# Altium footprint library Kanaloa_V2.0.0_Power.PcbLib: 36 footprints (part 1 of 3)
Each footprint in its own frame and in the unit in brackets; x right, y up, seen from the top. Pads: shape width x height; smd on the part's side, far side on the other; paste and mask are expansions set on the pad; w line width, h text height; cw(c..) or ccw(c..) is an arc to the next point about the centre after c.
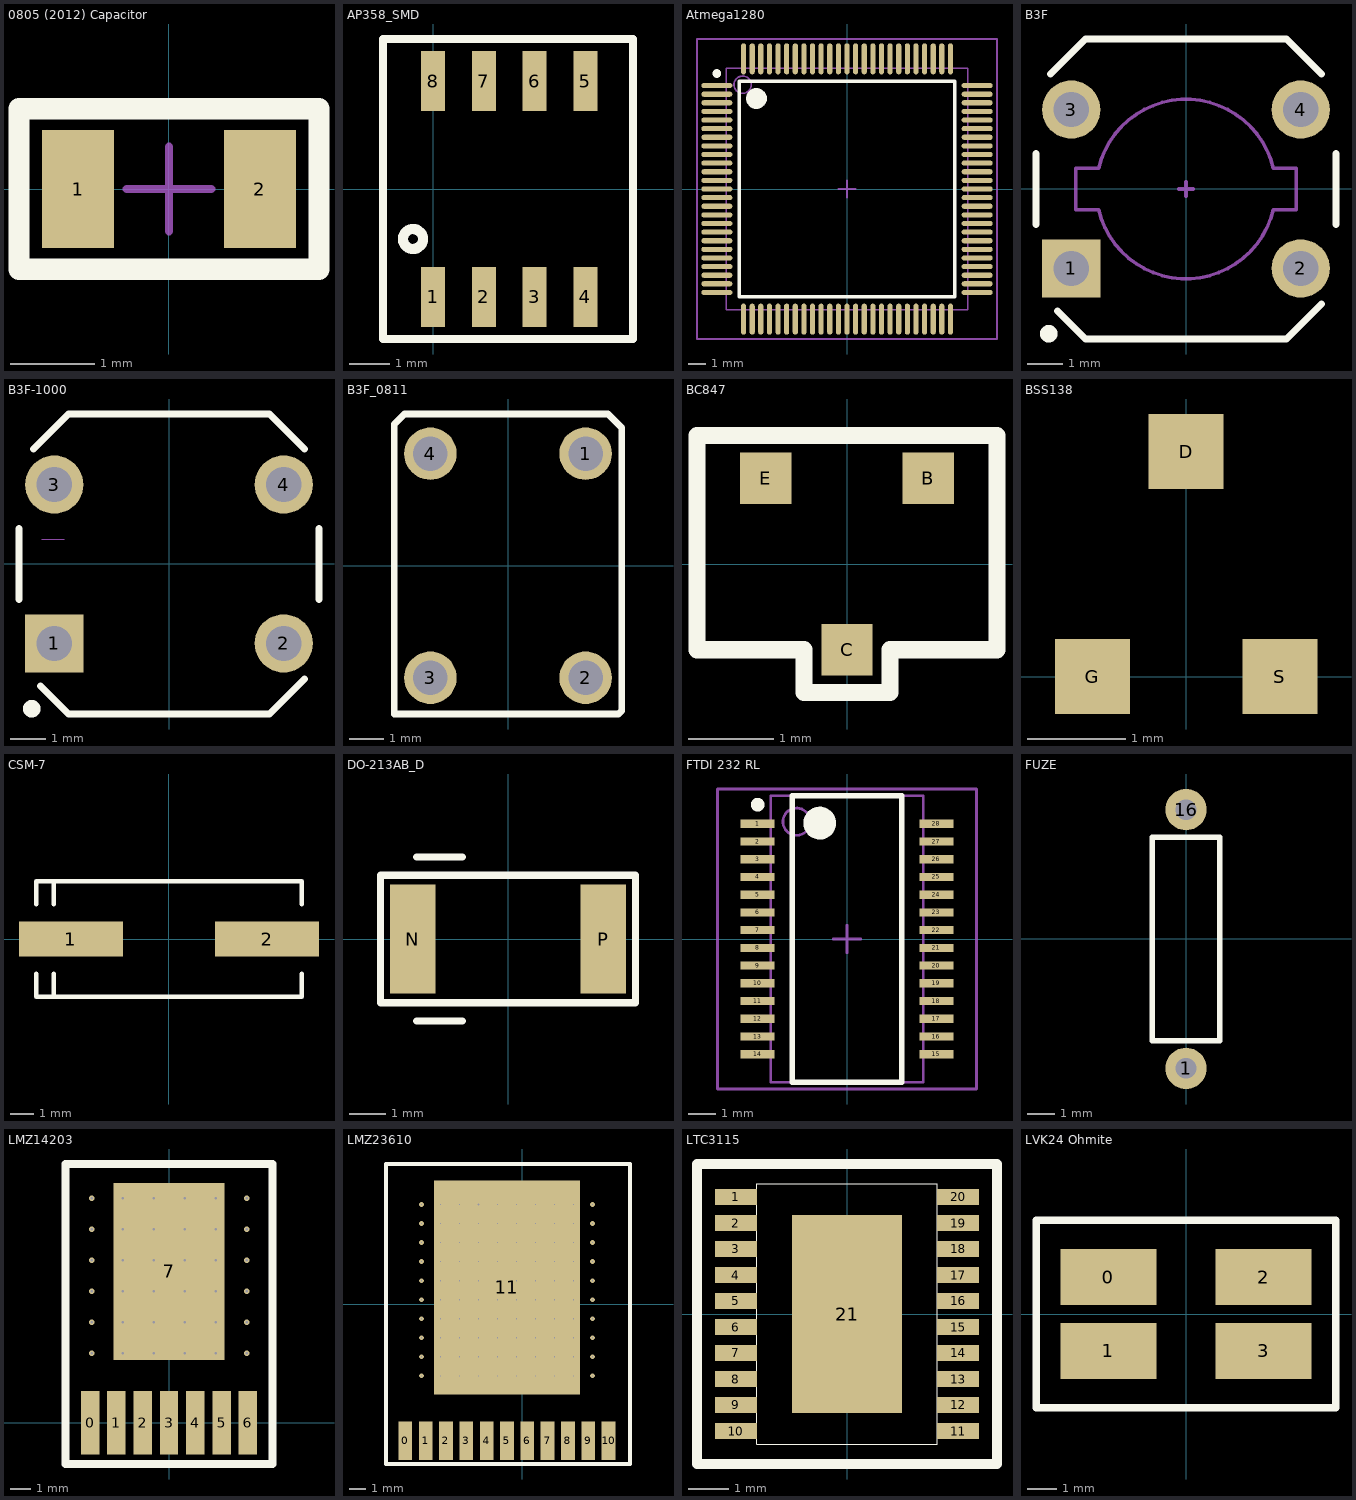
[diagram p0: the footprints below, top view; thin cyan lines are the x and y axes]

## 0805 (2012) Capacitor [mm] "0805 (2012) Capacitor"
height 0.6
pads (2):
  rect 0.85x1.4 smd: 1(-1.075,0) 2(1.075,0)
Top Overlay:
  lines w0.254: -1.775,-0.95 1.775,-0.95 1.775,0.95 -1.775,0.95 -1.775,-0.95
Mechanical 15:
  lines w0.1: -0.5,0 0.5,0 ; 0,-0.5 0,0.5 ; -1.775,-0.95 1.775,-0.95 1.775,0.95 -1.775,0.95 -1.775,-0.95
3D body: height 0.85, standoff 0, extent -1.188,-0.65 -0.813,0.65
3D body: height 0.85, standoff 0, extent -1.1,-0.635 1.1,0.635
3D body: height 0.85, standoff 0, extent 0.813,-0.65 1.188,0.65

## AP358_SMD [mm] "Dual Circuit OpAmp (Diodes)"
pads (8):
  rect 0.6x1.5 smd: 1(0,-2.7) 2(1.27,-2.7) 3(2.54,-2.7) 4(3.81,-2.7) 5(3.81,2.7) 6(2.54,2.7) 7(1.27,2.7) 8(0,2.7)
Top Overlay:
  circle w0.254: c-0.5,-1.25 r0.25
  lines w0.2: -1.25,-3.75 -1.25,3.75 5,3.75 5,-3.75 -1.25,-3.75
3D body: height 1.6, standoff 0, extent -0.605,-3.021 4.415,3.021

## Atmega1280 [mm] "TSQFP, 100-Leads, Body 14x14mm (max), Pitch 0.50mm, IPC Medium Density"
height 1.2
pads (100):
  oval 1.8x0.3 smd: 1(-7.55,6) 2(-7.55,5.5) 3(-7.55,5) 4(-7.55,4.5) 5(-7.55,4) 6(-7.55,3.5) 7(-7.55,3) 8(-7.55,2.5) 9(-7.55,2) 10(-7.55,1.5) 11(-7.55,1) 12(-7.55,0.5) 13(-7.55,0) 14(-7.55,-0.5) 15(-7.55,-1) 16(-7.55,-1.5) 17(-7.55,-2) 18(-7.55,-2.5) 19(-7.55,-3) 20(-7.55,-3.5) 21(-7.55,-4) 22(-7.55,-4.5) 23(-7.55,-5) 24(-7.55,-5.5) 25(-7.55,-6) 51(7.55,-6) 52(7.55,-5.5) 53(7.55,-5) 54(7.55,-4.5) 55(7.55,-4) 56(7.55,-3.5) 57(7.55,-3) 58(7.55,-2.5) 59(7.55,-2) 60(7.55,-1.5) 61(7.55,-1) 62(7.55,-0.5) 63(7.55,0) 64(7.55,0.5) 65(7.55,1) 66(7.55,1.5) 67(7.55,2) 68(7.55,2.5) 69(7.55,3) 70(7.55,3.5) 71(7.55,4) 72(7.55,4.5) 73(7.55,5) 74(7.55,5.5) 75(7.55,6)
  oval 0.3x1.8 smd: 26(-6,-7.55) 27(-5.5,-7.55) 28(-5,-7.55) 29(-4.5,-7.55) 30(-4,-7.55) 31(-3.5,-7.55) 32(-3,-7.55) 33(-2.5,-7.55) 34(-2,-7.55) 35(-1.5,-7.55) 36(-1,-7.55) 37(-0.5,-7.55) 38(0,-7.55) 39(0.5,-7.55) 40(1,-7.55) 41(1.5,-7.55) 42(2,-7.55) 43(2.5,-7.55) 44(3,-7.55) 45(3.5,-7.55) 46(4,-7.55) 47(4.5,-7.55) 48(5,-7.55) 49(5.5,-7.55) 50(6,-7.55) 76(6,7.55) 77(5.5,7.55) 78(5,7.55) 79(4.5,7.55) 80(4,7.55) 81(3.5,7.55) 82(3,7.55) 83(2.5,7.55) 84(2,7.55) 85(1.5,7.55) 86(1,7.55) 87(0.5,7.55) 88(0,7.55) 89(-0.5,7.55) 90(-1,7.55) 91(-1.5,7.55) 92(-2,7.55) 93(-2.5,7.55) 94(-3,7.55) 95(-3.5,7.55) 96(-4,7.55) 97(-4.5,7.55) 98(-5,7.55) 99(-5.5,7.55) 100(-6,7.55)
Top Overlay:
  circle w0.6: c-5.25,5.25 r0.3
  circle w0.25: c-7.55,6.7 r0.125
  lines w0.2: -6.25,-6.25 6.25,-6.25 6.25,6.25 -6.25,6.25 -6.25,-6.25
Mechanical 13:
  circle w0.1: c-6.05,6.05 r0.5
  lines w0.1: -7,-7 7,-7 7,7 -7,7 -7,-7
Mechanical 15:
  lines w0.1: -0.5,0 0.5,0 ; 0,-0.5 0,0.5 ; -8.7,-8.7 8.7,-8.7 8.7,8.7 -8.7,8.7 -8.7,-8.7
3D body: height 1.03, standoff -0.03, extent -8,-7.999 8,8.001

## B3F [mm]
pads (4):
  rect 1.65x1.65 hole 1: 1(-3.25,-2.25)
  round 1.65 hole 1: 2(3.25,-2.25) 3(-3.25,2.25) 4(3.25,2.25)
Top Overlay:
  circle w0.25: c-3.891,-4.1 r0.125
  lines w0.2: -4.25,-1 -4.25,1 ; -3.837,3.263 -2.85,4.25 2.85,4.25 3.837,3.263 ; -3.638,-3.458 -2.85,-4.25 2.85,-4.25 3.837,-3.263 ; 4.25,-1 4.25,1
Mechanical 1:
  lines w0.1: -3.124,-0.584 -3.124,0.584 ; -3.119,-0.584 -2.489,-0.584 ; -3.119,0.584 -2.489,0.584 ; -2.476,-0.583 ccw(c-0.001,0) 2.473,-0.583 ; -2.474,0.583 cw(c0,0) 2.474,0.583 ; -0.2,0 0.2,0 ; 0,-0.2 0,0.2 ; 2.489,-0.584 3.119,-0.584 ; 2.489,0.584 3.119,0.584 ; 3.124,-0.584 3.124,0.584

## B3F-1000 [mm] "OMRON Electronics Pushbutton Tactile SPST-NO 0.05A 24V"
pads (4):
  rect 1.65x1.65 hole 1: 1(-3.25,-2.25)
  round 1.65 hole 1: 2(3.25,-2.25) 3(-3.25,2.25) 4(3.25,2.25)
Top Overlay:
  circle w0.25: c-3.891,-4.1 r0.125
  lines w0.2: -4.25,-1 -4.25,1 ; -3.837,3.263 -2.85,4.25 2.85,4.25 3.837,3.263 ; -3.638,-3.458 -2.85,-4.25 2.85,-4.25 3.837,-3.263 ; 4.25,-1 4.25,1
Mechanical 1:
  lines w0: -3.6,0.7 -2.97,0.7
3D body: height 4.3, standoff -3.5, extent -3.814,-3 3.886,3

## B3F_0811 [mm]
pads (4):
  round 1.524 hole 1: 1(2.25,3.25) 2(2.25,-3.25) 3(-2.25,-3.25) 4(-2.25,3.25)
Top Overlay:
  lines w0.2: -3.3,-4.3 -3.3,4 -3.3,4.1 -3,4.4 2.9,4.4 3.3,4 3.3,-4.2 3.2,-4.3 -3.3,-4.3
3D body: height 3.4, standoff 0, extent -3,-3 3,3

## BC847 [mm] "NPN Transistor"
pads (3):
  rect 0.6x0.6 smd: B(0.95,1) C(0,-1) E(-0.95,1)
Top Overlay:
  lines w0.2: -1.75,-1 -1.75,1.5 1.75,1.5 1.75,-1 0.5,-1 0.5,-1.5 -0.5,-1.5 -0.5,-1 -1.75,-1
3D body: height 1, standoff 0, extent -1.75,-1 1.75,1.5

## BSS138 [mil] "SOT23 N Channel Logic Level Enchance Mode Field Effect Transisitor"
pads (3):
  rect 30x30 smd: D(0,90) G(-37.5,0) S(37.5,0)
3D body: height 43.11, standoff 0, extent -59.06,-6.21 59.05,92.22

## CSM-7 [mm] "Quartz Crystal, SM; 2 Leads; Body 11.4 x 4.8 x 5 mm (LxWxH)"
height 5
pads (2):
  rect 4.5x1.5 smd: 1(-4.25,0) 2(4.25,0)
Top Overlay:
  lines w0.2: -5.75,-1.5 -5.75,-2.5 5.75,-2.5 5.75,-1.5 ; -5.75,1.5 -5.75,2.5 5.75,2.5 5.75,1.5 ; -5,-2.5 -5,-1.5 ; -5,1.5 -5,2.5

## DO-213AB_D [mil] "Zener Diode 1.5V"
pads (2):
  rect 49x118 smd: N(-103,0) P(103,0)
Top Overlay:
  lines w7.87: -98.43,-88.58 -49.21,-88.58 ; -98.43,88.58 -49.21,88.58 ; -137.8,-68.9 137.8,-68.9 137.8,68.9 -137.8,68.9 -137.8,-68.9
3D body: height 52.56, standoff -52.56, extent -102.36,-53 102.36,52.12

## FTDI 232 RL [mm] "SOP, 28-Leads, Body 10.5x5.6mm (max), Pitch 0.65mm, IPC Medium Density"
height 2
pads (28):
  rect 1.25x0.3 smd: 1(-3.275,4.225) 2(-3.275,3.575) 3(-3.275,2.925) 4(-3.275,2.275) 5(-3.275,1.625) 6(-3.275,0.975) 7(-3.275,0.325) 8(-3.275,-0.325) 9(-3.275,-0.975) 10(-3.275,-1.625) 11(-3.275,-2.275) 12(-3.275,-2.925) 13(-3.275,-3.575) 14(-3.275,-4.225) 15(3.275,-4.225) 16(3.275,-3.575) 17(3.275,-2.925) 18(3.275,-2.275) 19(3.275,-1.625) 20(3.275,-0.975) 21(3.275,-0.325) 22(3.275,0.325) 23(3.275,0.975) 24(3.275,1.625) 25(3.275,2.275) 26(3.275,2.925) 27(3.275,3.575) 28(3.275,4.225)
Top Overlay:
  circle w0.25: c-3.275,4.925 r0.125
  circle w0.6: c-1,4.25 r0.3
  lines w0.2: -2,-5.25 -2,5.25 2,5.25 2,-5.25 -2,-5.25
Mechanical 13:
  circle w0.1: c-1.85,4.3 r0.5
  lines w0.1: -2.8,-5.25 -2.8,5.25 2.8,5.25 2.8,-5.25 -2.8,-5.25
Mechanical 15:
  lines w0.1: -0.5,0 0.5,0 ; 0,-0.5 0,0.5 ; -4.75,-5.5 -4.75,5.5 4.75,5.5 4.75,-5.5 -4.75,-5.5
3D body: height 1.98, standoff -0.02, extent -3.931,-5.095 3.881,5.105

## FUZE [mil]
pads (2):
  round 60 hole 30: 1(0,-187.52) 16(0,187.5)
Top Overlay:
  lines w7.87: -49.21,-147.64 49.21,-147.64 49.21,147.64 -49.21,147.64 -49.21,-147.64

## LMZ14203 [mm] "Voltage Regulator TI"
pads (8):
  rect 0.89x3.06 smd: 0(-3.81,0) 1(-2.54,0) 2(-1.27,0) 3(0,0) 4(1.27,0) 5(2.54,0) 6(3.81,0)
  rect 5.35x8.54 smd: 7(0,7.305)
via -3.734,3.353 diameter 0.254 hole 0.127
via -2.235,3.353 diameter 0.254 hole 0.127
via -0.737,3.353 diameter 0.254 hole 0.127
via 0.762,3.353 diameter 0.254 hole 0.127
via 2.261,3.353 diameter 0.254 hole 0.127
via 3.759,3.353 diameter 0.254 hole 0.127
via 3.759,3.353 diameter 0.254 hole 0.127
via 2.261,3.353 diameter 0.254 hole 0.127
via 0.762,3.353 diameter 0.254 hole 0.127
via -0.737,3.353 diameter 0.254 hole 0.127
via -2.235,3.353 diameter 0.254 hole 0.127
via 3.759,4.851 diameter 0.254 hole 0.127
via 2.261,4.851 diameter 0.254 hole 0.127
via 0.762,4.851 diameter 0.254 hole 0.127
via -0.737,4.851 diameter 0.254 hole 0.127
via -2.235,4.851 diameter 0.254 hole 0.127
via -3.734,4.851 diameter 0.254 hole 0.127
via 3.759,6.35 diameter 0.254 hole 0.127
via 2.261,6.35 diameter 0.254 hole 0.127
via 0.762,6.35 diameter 0.254 hole 0.127
via -0.737,6.35 diameter 0.254 hole 0.127
via -2.235,6.35 diameter 0.254 hole 0.127
via -3.734,6.35 diameter 0.254 hole 0.127
via 3.759,7.849 diameter 0.254 hole 0.127
via 2.261,7.849 diameter 0.254 hole 0.127
via 0.762,7.849 diameter 0.254 hole 0.127
via -0.737,7.849 diameter 0.254 hole 0.127
via -2.235,7.849 diameter 0.254 hole 0.127
via -3.734,7.849 diameter 0.254 hole 0.127
via 3.759,9.347 diameter 0.254 hole 0.127
via 2.261,9.347 diameter 0.254 hole 0.127
via 0.762,9.347 diameter 0.254 hole 0.127
via -0.737,9.347 diameter 0.254 hole 0.127
via -2.235,9.347 diameter 0.254 hole 0.127
via -3.734,9.347 diameter 0.254 hole 0.127
via 3.759,10.846 diameter 0.254 hole 0.127
via 2.261,10.846 diameter 0.254 hole 0.127
via 0.762,10.846 diameter 0.254 hole 0.127
via -0.737,10.846 diameter 0.254 hole 0.127
via -2.235,10.846 diameter 0.254 hole 0.127
via -3.734,10.846 diameter 0.254 hole 0.127
Top Overlay:
  lines w0.4: 5,-1.75 5,-2 ; 5,-2 -5,-2 -5,12.5 5,12.5 5,-2
3D body: height 4.88, standoff 0.11, extent -5.105,-1.272 5.055,12.498

## LMZ23610 [mm] "Voltage Regulator (TI)"
pads (12):
  rect 0.86x2.41 smd: 0(-7.29,-8.557) 1(-6.02,-8.557) 2(-4.75,-8.557) 3(-3.48,-8.557) 4(-2.21,-8.557) 5(-0.94,-8.557) 6(0.33,-8.557) 7(1.6,-8.557) 8(2.87,-8.557) 9(4.14,-8.557) 10(5.41,-8.557)
  rect 9.126x13.37 smd: 11(-0.94,1.043)
via -6.293,6.211 diameter 0.305 hole 0.003
via -6.293,6.211 diameter 0.305 hole 0.003
via -5.104,6.211 diameter 0.305 hole 0.003
via -3.915,6.211 diameter 0.305 hole 0.003
via -2.727,6.211 diameter 0.305 hole 0.127
via -1.538,6.211 diameter 0.305 hole 0.003
via -0.349,6.211 diameter 0.305 hole 0.003
via 0.839,6.211 diameter 0.305 hole 0.003
via 2.028,6.211 diameter 0.305 hole 0.003
via 3.217,6.211 diameter 0.305 hole 0.003
via 4.406,6.211 diameter 0.305 hole 0.003
via -6.293,5.022 diameter 0.305 hole 0.003
via -6.293,5.022 diameter 0.305 hole 0.003
via -5.104,5.022 diameter 0.305 hole 0.003
via -3.915,5.022 diameter 0.305 hole 0.003
via -2.727,5.022 diameter 0.305 hole 0.003
via -1.538,5.022 diameter 0.305 hole 0.003
via -0.349,5.022 diameter 0.305 hole 0.003
via 0.839,5.022 diameter 0.305 hole 0.003
via 2.028,5.022 diameter 0.305 hole 0.003
via 3.217,5.022 diameter 0.305 hole 0.003
via 4.406,5.022 diameter 0.305 hole 0.003
via -6.293,3.833 diameter 0.305 hole 0.003
via -6.293,3.833 diameter 0.305 hole 0.003
via -5.104,3.833 diameter 0.305 hole 0.003
via -3.915,3.833 diameter 0.305 hole 0.003
via -2.727,3.833 diameter 0.305 hole 0.003
via -1.538,3.833 diameter 0.305 hole 0.003
via -0.349,3.833 diameter 0.305 hole 0.003
via 0.839,3.833 diameter 0.305 hole 0.003
via 2.028,3.833 diameter 0.305 hole 0.003
via 3.217,3.833 diameter 0.305 hole 0.003
via 4.406,3.833 diameter 0.305 hole 0.003
via -6.293,2.645 diameter 0.305 hole 0.003
via -6.293,2.645 diameter 0.305 hole 0.003
via -5.104,2.645 diameter 0.305 hole 0.003
via -3.915,2.645 diameter 0.305 hole 0.003
via -2.727,2.645 diameter 0.305 hole 0.003
via -1.538,2.645 diameter 0.305 hole 0.003
via -0.349,2.645 diameter 0.305 hole 0.003
via 0.839,2.645 diameter 0.305 hole 0.003
via 2.028,2.645 diameter 0.305 hole 0.003
via 3.217,2.645 diameter 0.305 hole 0.003
via 4.406,2.645 diameter 0.305 hole 0.003
via -6.293,1.456 diameter 0.305 hole 0.003
via -6.293,1.456 diameter 0.305 hole 0.003
via -5.104,1.456 diameter 0.305 hole 0.003
via -3.915,1.456 diameter 0.305 hole 0.003
via -2.727,1.456 diameter 0.305 hole 0.003
via -1.538,1.456 diameter 0.305 hole 0.003
via -0.349,1.456 diameter 0.305 hole 0.003
via 0.839,1.456 diameter 0.305 hole 0.003
via 2.028,1.456 diameter 0.305 hole 0.003
via 3.217,1.456 diameter 0.305 hole 0.003
via 4.406,1.456 diameter 0.305 hole 0.003
via -6.293,0.267 diameter 0.305 hole 0.003
via -6.293,0.267 diameter 0.305 hole 0.003
via -5.104,0.267 diameter 0.305 hole 0.003
via -3.915,0.267 diameter 0.305 hole 0.003
via -2.727,0.267 diameter 0.305 hole 0.003
via -1.538,0.267 diameter 0.305 hole 0.003
via -0.349,0.267 diameter 0.305 hole 0.003
via 0.839,0.267 diameter 0.305 hole 0.003
via 2.028,0.267 diameter 0.305 hole 0.003
via 3.217,0.267 diameter 0.305 hole 0.003
via 4.406,0.267 diameter 0.305 hole 0.003
via -6.293,-0.922 diameter 0.305 hole 0.003
via -5.104,-0.922 diameter 0.305 hole 0.003
via -3.915,-0.922 diameter 0.305 hole 0.003
via -2.727,-0.922 diameter 0.305 hole 0.003
via -1.538,-0.922 diameter 0.305 hole 0.003
via -0.349,-0.922 diameter 0.305 hole 0.003
via 0.839,-0.922 diameter 0.305 hole 0.003
via 2.028,-0.922 diameter 0.305 hole 0.003
via 3.217,-0.922 diameter 0.305 hole 0.003
via 4.406,-0.922 diameter 0.305 hole 0.003
via -6.293,-2.11 diameter 0.305 hole 0.003
via -5.104,-2.11 diameter 0.305 hole 0.003
via -3.915,-2.11 diameter 0.305 hole 0.003
via -2.727,-2.11 diameter 0.305 hole 0.003
via -1.538,-2.11 diameter 0.305 hole 0.003
via -0.349,-2.11 diameter 0.305 hole 0.003
via 0.839,-2.11 diameter 0.305 hole 0.003
via 2.028,-2.11 diameter 0.305 hole 0.003
via 3.217,-2.11 diameter 0.305 hole 0.003
via 4.406,-2.11 diameter 0.305 hole 0.003
via -6.293,-3.299 diameter 0.305 hole 0.003
via -5.104,-3.299 diameter 0.305 hole 0.003
via -3.915,-3.299 diameter 0.305 hole 0.003
via -2.727,-3.299 diameter 0.305 hole 0.003
via -1.538,-3.299 diameter 0.305 hole 0.003
via -0.349,-3.299 diameter 0.305 hole 0.003
via 0.839,-3.299 diameter 0.305 hole 0.003
via 2.028,-3.299 diameter 0.305 hole 0.003
via 3.217,-3.299 diameter 0.305 hole 0.003
via 4.406,-3.299 diameter 0.305 hole 0.003
via -5.104,-4.488 diameter 0.305 hole 0.003
via -3.915,-4.488 diameter 0.305 hole 0.003
via -2.727,-4.488 diameter 0.305 hole 0.003
via -1.538,-4.488 diameter 0.305 hole 0.003
via -0.349,-4.488 diameter 0.305 hole 0.003
via 0.839,-4.488 diameter 0.305 hole 0.003
via 2.028,-4.488 diameter 0.305 hole 0.003
via 3.217,-4.488 diameter 0.305 hole 0.003
via 4.406,-4.488 diameter 0.305 hole 0.003
via 4.406,-4.488 diameter 0.305 hole 0.003
via 3.217,-4.488 diameter 0.305 hole 0.003
via 2.028,-4.488 diameter 0.305 hole 0.003
via 0.839,-4.488 diameter 0.305 hole 0.003
via -0.349,-4.488 diameter 0.305 hole 0.003
via -1.538,-4.488 diameter 0.305 hole 0.003
via -2.727,-4.488 diameter 0.305 hole 0.003
via -3.915,-4.488 diameter 0.305 hole 0.003
via -5.104,-4.488 diameter 0.305 hole 0.003
via -6.293,-4.488 diameter 0.305 hole 0.003
Top Overlay:
  lines w0.254: -8.5,-10 6.75,-10 6.75,8.75 -8.5,8.75 -8.5,-10
3D body: height 6.1, standoff -0.01, extent -8.396,-8.992 6.604,8.788

## LTC3115 [mm] "TSSOP, 20-Leads, Body 6.6x4.5mm (max), Pitch 0.65mm, IPC Medium Density"
height 1.2
pads (21):
  rect 1.05x0.4 smd: 1(-2.775,2.925) 2(-2.775,2.275) 3(-2.775,1.625) 4(-2.775,0.975) 5(-2.775,0.325) 6(-2.775,-0.325) 7(-2.775,-0.975) 8(-2.775,-1.625) 9(-2.775,-2.275) 10(-2.775,-2.925) 11(2.775,-2.925) 12(2.775,-2.275) 13(2.775,-1.625) 14(2.775,-0.975) 15(2.775,-0.325) 16(2.775,0.325) 17(2.775,0.975) 18(2.775,1.625) 19(2.775,2.275) 20(2.775,2.925)
  rect 2.74x4.95 smd: 21(0,0)
Top Overlay:
  lines w0.025: -2.25,-3.25 -2.25,3.25 2.25,3.25 2.25,-3.25 -2.25,-3.25
  lines w0.254: -3.75,-3.75 -3.75,3.75 3.75,3.75 3.75,-3.75 -3.75,-3.75
3D body: height 1.1, standoff -0.09, extent -3.156,-3.352 3.124,3.148

## LVK24 Ohmite [mm]
pads (4):
  rect 3.25x1.9 smd: 0(-2.625,1.25) 1(-2.625,-1.25) 2(2.625,1.25) 3(2.625,-1.25)
Top Overlay:
  lines w0.254: -5.08,-3.175 -5.08,3.175 5.08,3.175 5.08,-3.175 -5.08,-3.175